# EAGLE library part WE-LAN_10/100_BASETX_7490100111 (library Wuerth_Elektronik_eiSos_ v6.0)
LAN-Transformer WE-LAN 10/100 Base Tx - Compliant with IEEE 802.3 standards - SMD -- Ethernet -- Power over Ethernet -- 1 Gigabit Ethernet -- Compliant with most IC's for ethernet applications like Intel, AMD, Globespan and Realtek -- Hub, Router, Switch
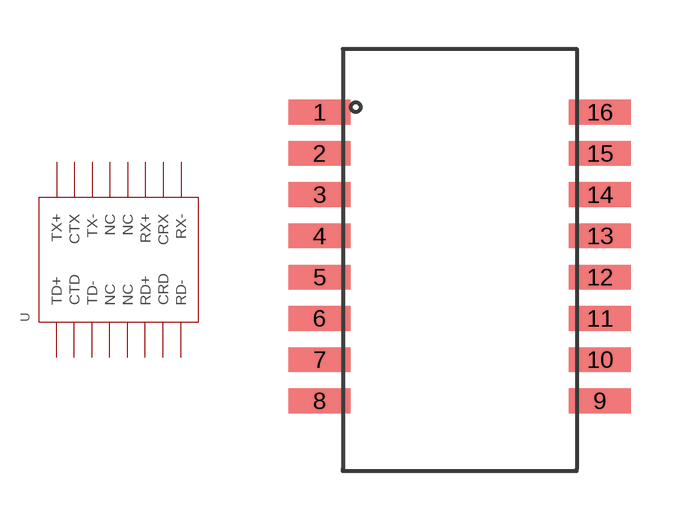
[diagram p21: symbol with the pads of WE-LAN_10/100_BASETX_7490100111; footprint WE-LAN_10/100_BASETX_7490100111]

Designator prefix -

## WE-LAN_10/100_BASETX_7490100111  [WE-LAN_10/100_BASETX_7490100111]
1  TD+  pas
2  CTD  pas
3  TD-  pas
4  NC  pas
5  NC  pas
6  RD+  pas
7  CRD  pas
8  RD-  pas
9  RX-  pas
10  CRX  pas
11  RX+  pas
12  NC  pas
13  NC  pas
14  TX-  pas
15  CTX  pas
16  TX+  pas

## Footprint WE-LAN_10/100_BASETX_7490100111 (pad centres in mm)
WE-LAN 10/100 BaseTx
smd 1.91 x 0.76: 1 -4.317,3.945; 2 -4.317,2.675; 3 -4.317,1.405; 4 -4.317,0.135; 5 -4.317,-1.135; 6 -4.317,-2.405; 7 -4.317,-3.675; 8 -4.317,-4.945; 9 4.317,-4.945; 10 4.317,-3.675; 11 4.317,-2.405; 12 4.317,-1.135; 13 4.317,0.135; 14 4.317,1.405; 15 4.317,2.675; 16 4.317,3.945